# Altium schematic symbol library Capacitors.SchLib: 4 symbols
Pins are listed as number, name and electrical type; pins without a type are passive.

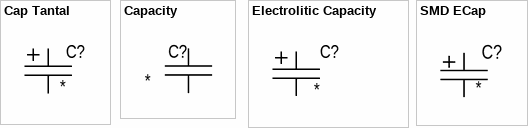
[diagram p0: symbols Cap Tantal to SMD ECap]

## Cap Tantal
designator C?
Model: EEE-HA1E221P; Name: Конденсатор Тантал; Case: *; Manufacture: *; Value: *; HelpURL: https://industrial.panasonic.com/cdbs/www-data/pdf/RDE0000/ABA0000C1151.pdf; Tolerance: *; Voltage: *
footprint Tantal Case A
footprint Tantal Case B
footprint Tantal Case C
footprint Tantal Case D
footprint Tantal Case E
footprint Tantal Case U
footprint Tantal Case V
pins: 1 "Вход", 2 "Вход"

## Capacity
designator C?
Name: Конденсатор; HelpURL: *; Case: *; Manufacture: *; Model: *; Value: *; Tolerance: *; Voltage: *
footprint C0402
footprint C0603
footprint C0805
footprint C1206
footprint C1210
footprint C1808
footprint C1812
footprint C1825
footprint C2220
footprint C2225
pins: 1 "Вход", 2 "Вход"

## Electrolitic Capacity
designator C?
Name: Конденсатор Электролит; Case: *; Manufacture: *; Value: *; HelpURL: *; Model: *; Tolerance: *; Voltage: *
footprint ECap D5.0x11
footprint ECap D6.3x11
footprint ECap D8.0x11.5
footprint ECap D10.0x12.5
footprint ECap D10.0x16.0
footprint ECap D10.0x20.0
footprint ECap D12.5x20.0
footprint ECap D12.5x25.0
footprint ECap D16.0x25.0
footprint ECap D16.0x31.5
footprint ECap D16.0x35.5
footprint ECap D18.0x35.5
footprint ECap D18.0x40.0
pins: 1 "Вход", 2 "Вход"

## SMD ECap
designator C?
Model: EEE-HA1E221P; Name: Конденсатор Электролит SMD; Case: *; Manufacture: *; Value: *; HelpURL: https://industrial.panasonic.com/cdbs/www-data/pdf/RDE0000/ABA0000C1151.pdf; Tolerance: *; Voltage: *
footprint SMD ECAP D4.0x5.4 Code B
footprint SMD ECAP D5.0x5.4 Code C
footprint SMD ECAP D6.3x5.4 Code D
footprint SMD ECAP D6.3x7.7 Code D8
footprint SMD ECAP D8.0x6.2 Code E
footprint SMD ECAP D8.0x10.2 Code F
footprint SMD ECAP D10.0x10.2 Code G
pins: 1 "Вход", 2 "Вход"